# Altium schematic symbol library MOSFET_P-channel_8pin.SchLib: 1 symbol
Pins are listed as number, name and electrical type; pins without a type are passive.

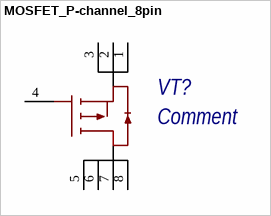
[diagram p0: symbol MOSFET_P-channel_8pin]

## MOSFET_P-channel_8pin
designator VT?, comment Comment
pins: 1, 2, 3, 4, 5, 6, 7, 8